# Altium schematic symbol library PEF7072.SchLib: 1 symbol
Pins are listed as number, name and electrical type; pins without a type are passive.

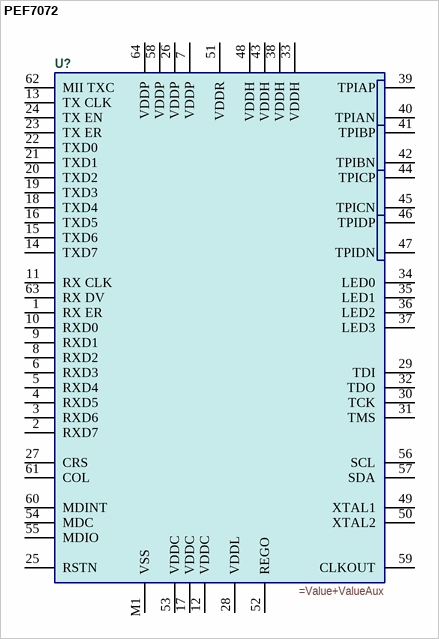
[diagram p0: symbol PEF7072]

## PEF7072
designator U?
=Description
pins: 1 RX ER, 2 RXD7, 3 RXD6, 4 RXD5, 5 RXD4, 6 RXD3, 7 VDDP (power), 8 RXD2, 9 RXD1, 10 RXD0, 11 RX CLK, 12 VDDC (power), 13 TX CLK, 14 TXD7, 15 TXD6, 16 TXD5, 17 VDDC (power), 18 TXD4, 19 TXD3, 20 TXD2, 21 TXD1, 22 TXD0, 23 TX ER, 24 TX EN, 25 RSTN, 26 VDDP (power), 27 CRS, 28 VDDL (power), 29 TDI, 30 TCK, 31 TMS, 32 TDO, 33 VDDH (power), 34 LED0, 35 LED1, 36 LED2, 37 LED3, 38 VDDH (power), 39 TPIAP, 40 TPIAN, 41 TPIBP, 42 TPIBN, 43 VDDH (power), 44 TPICP, 45 TPICN, 46 TPIDP, 47 TPIDN, 48 VDDH (power), 49 XTAL1, 50 XTAL2, 51 VDDR (power), 52 REGO (power), 53 VDDC (power), 54 MDC, 55 MDIO, 56 SCL, 57 SDA, 58 VDDP (power), 59 CLKOUT, 60 MDINT, 61 COL, 62 MII TXC, 63 RX DV, 64 VDDP (power), M1 VSS (power)